# Altium footprint library Connector_Molex.PcbLib: 815 footprints (part 9 of 51)
Each footprint in its own frame and in the unit in brackets; x right, y up, seen from the top. Pads: shape width x height; smd on the part's side, far side on the other; paste and mask are expansions set on the pad; w line width, h text height; cw(c..) or ccw(c..) is an arc to the next point about the centre after c.
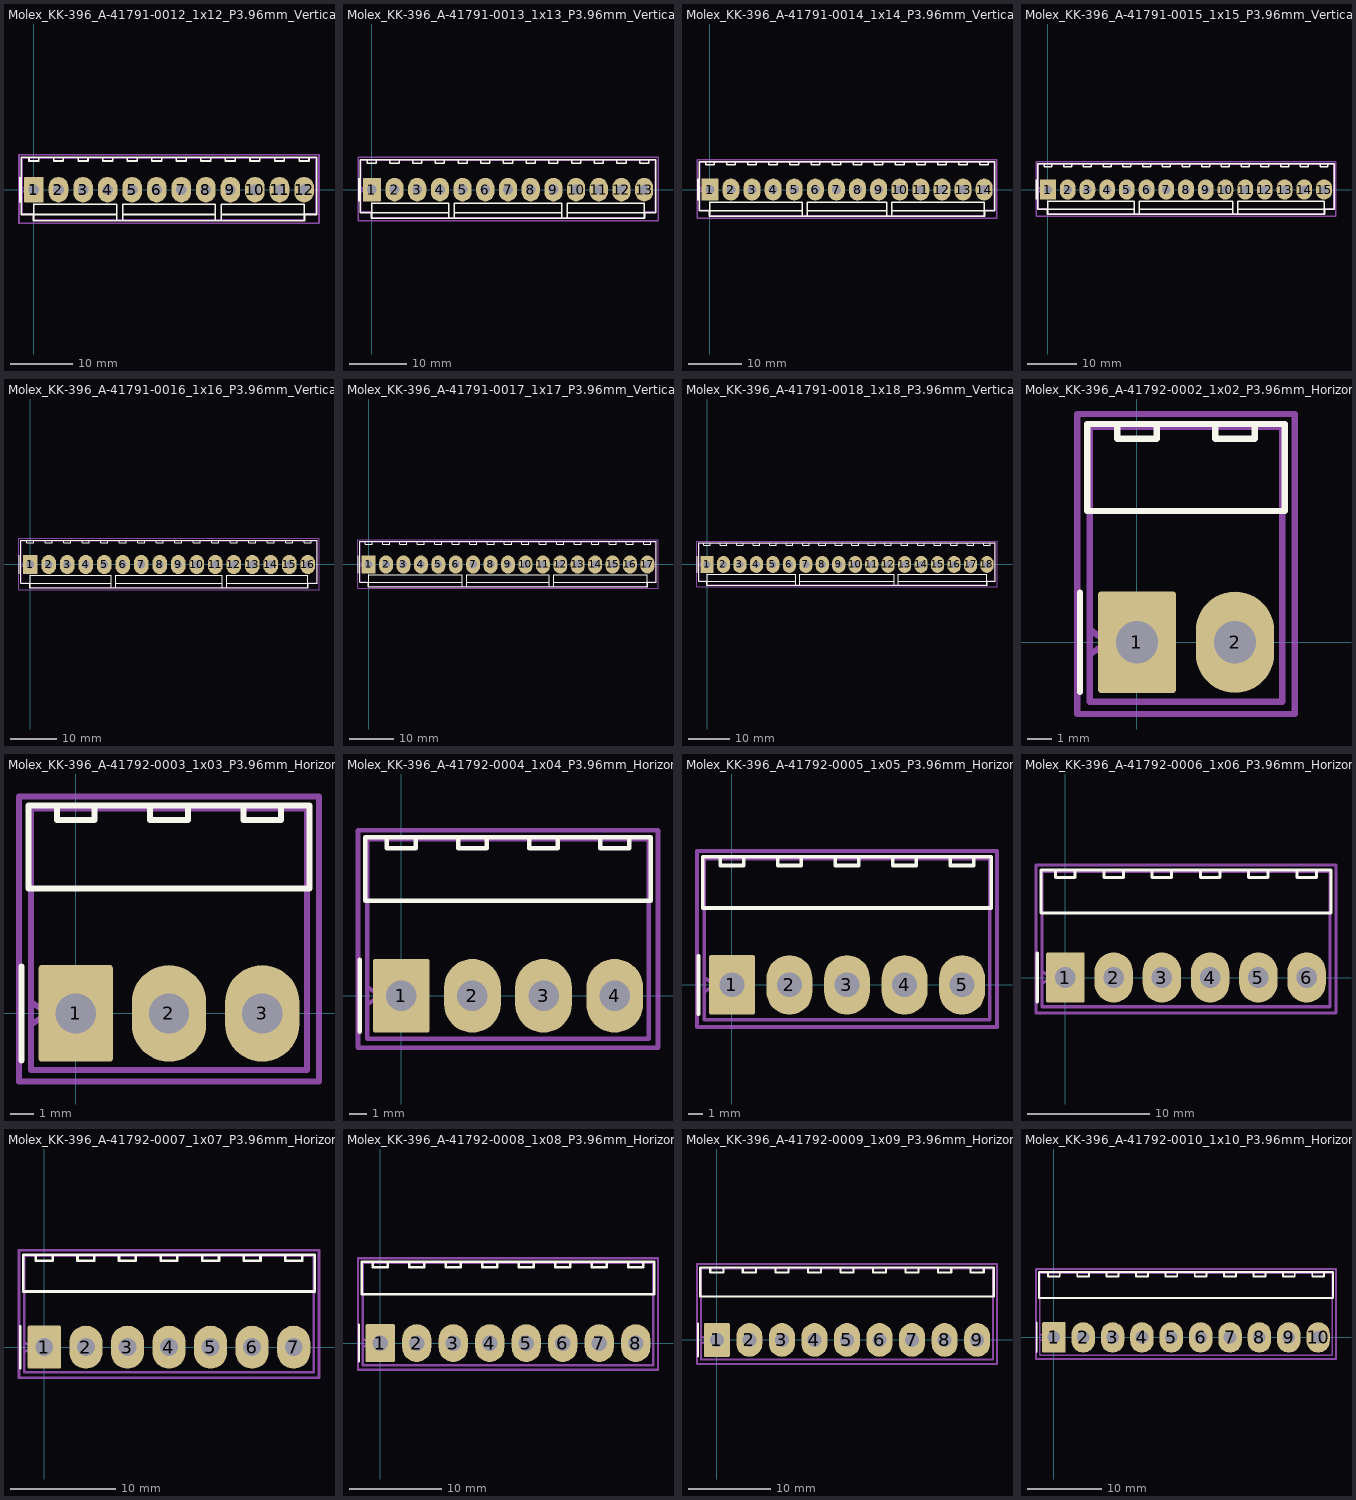
[diagram p8: the footprints below, top view; thin cyan lines are the x and y axes]

## Molex_KK-396_A-41791-0012_1x12_P3.96mm_Vertical [mm]
pads (12):
  rrect8% 3.16x4.1 hole 1.7: 1(0,0)
  rrect100% 3.16x4.1 hole 1.7: 2(3.96,0) 3(7.92,0) 4(11.88,0) 5(15.84,0) 6(19.8,0) 7(23.76,0) 8(27.72,0) 9(31.68,0) 10(35.64,0) 11(39.6,0) 12(43.56,0)
F.SilkS:
  lines w0.254: -2.31,-2 -2.31,2 ; -0.8,5.22 -0.8,4.62 0.8,4.62 0.8,5.22 ; 0,-5.01 0,-4.01 ; 3.16,5.22 3.16,4.62 4.76,4.62 4.76,5.22 ; 7.12,5.22 7.12,4.62 8.72,4.62 8.72,5.22 ; 11.08,5.22 11.08,4.62 12.68,4.62 12.68,5.22 ; 13.38,-5.01 13.38,-4.01 ; 14.34,-5.01 14.34,-4.01 ; 15.04,5.22 15.04,4.62 16.64,4.62 16.64,5.22 ; 19,5.22 19,4.62 20.6,4.62 20.6,5.22 ; 22.96,5.22 22.96,4.62 24.56,4.62 24.56,5.22 ; 26.92,5.22 26.92,4.62 28.52,4.62 28.52,5.22 ; 29.22,-5.01 29.22,-4.01 ; 30.18,-5.01 30.18,-4.01 ; 30.88,5.22 30.88,4.62 32.48,4.62 32.48,5.22 ; 34.84,5.22 34.84,4.62 36.44,4.62 36.44,5.22 ; 38.8,5.22 38.8,4.62 40.4,4.62 40.4,5.22 ; 42.76,5.22 42.76,4.62 44.36,4.62 44.36,5.22 ; 43.56,-5.01 43.56,-4.01 ; 0,-4.01 13.38,-4.01 ; 0,-4.01 0,-2.34 13.38,-2.34 13.38,-4.01 ; 14.34,-4.01 29.22,-4.01 ; 14.34,-4.01 14.34,-2.34 29.22,-2.34 29.22,-4.01 ; 30.18,-4.01 43.56,-4.01 ; 30.18,-4.01 30.18,-2.34 43.56,-2.34 43.56,-4.01 ; -2.02,-4.005 -0.115,-4.005 -0.115,-5.01 43.675,-5.01 43.675,-4.005 45.58,-4.005 45.58,5.22 -2.02,5.22 -2.02,-4.005
Top Assembly:
  lines w0.254: -1.91,-0.5 -1.203,0 -1.91,0.5 ; -1.91,-3.895 -0.005,-3.895 -0.005,-4.9 43.565,-4.9 43.565,-3.895 45.47,-3.895 45.47,5.11 -1.91,5.11 -1.91,-3.895
  text "'.Designator'" at 17.733,3.57 h1
Top Courtyard:
  lines w0.254: -2.41,-5.4 45.97,-5.4 45.97,5.61 -2.41,5.61 -2.41,-5.4
Top Designator:
  text ".Designator" at 14.162,-0.403 h1.52

## Molex_KK-396_A-41791-0013_1x13_P3.96mm_Vertical [mm]
pads (13):
  rrect8% 3.16x4.1 hole 1.7: 1(0,0)
  rrect100% 3.16x4.1 hole 1.7: 2(3.96,0) 3(7.92,0) 4(11.88,0) 5(15.84,0) 6(19.8,0) 7(23.76,0) 8(27.72,0) 9(31.68,0) 10(35.64,0) 11(39.6,0) 12(43.56,0) 13(47.52,0)
F.SilkS:
  lines w0.254: -2.31,-2 -2.31,2 ; -0.8,5.22 -0.8,4.62 0.8,4.62 0.8,5.22 ; 0,-5.01 0,-4.01 ; 3.16,5.22 3.16,4.62 4.76,4.62 4.76,5.22 ; 7.12,5.22 7.12,4.62 8.72,4.62 8.72,5.22 ; 11.08,5.22 11.08,4.62 12.68,4.62 12.68,5.22 ; 13.38,-5.01 13.38,-4.01 ; 14.34,-5.01 14.34,-4.01 ; 15.04,5.22 15.04,4.62 16.64,4.62 16.64,5.22 ; 19,5.22 19,4.62 20.6,4.62 20.6,5.22 ; 22.96,5.22 22.96,4.62 24.56,4.62 24.56,5.22 ; 26.92,5.22 26.92,4.62 28.52,4.62 28.52,5.22 ; 30.88,5.22 30.88,4.62 32.48,4.62 32.48,5.22 ; 33.18,-5.01 33.18,-4.01 ; 34.14,-5.01 34.14,-4.01 ; 34.84,5.22 34.84,4.62 36.44,4.62 36.44,5.22 ; 38.8,5.22 38.8,4.62 40.4,4.62 40.4,5.22 ; 42.76,5.22 42.76,4.62 44.36,4.62 44.36,5.22 ; 46.72,5.22 46.72,4.62 48.32,4.62 48.32,5.22 ; 47.52,-5.01 47.52,-4.01 ; 0,-4.01 13.38,-4.01 ; 0,-4.01 0,-2.34 13.38,-2.34 13.38,-4.01 ; 14.34,-4.01 33.18,-4.01 ; 14.34,-4.01 14.34,-2.34 33.18,-2.34 33.18,-4.01 ; 34.14,-4.01 47.52,-4.01 ; 34.14,-4.01 34.14,-2.34 47.52,-2.34 47.52,-4.01 ; -2.02,-4.005 -0.115,-4.005 -0.115,-5.01 47.635,-5.01 47.635,-4.005 49.54,-4.005 49.54,5.22 -2.02,5.22 -2.02,-4.005
Top Assembly:
  lines w0.254: -1.91,-0.5 -1.203,0 -1.91,0.5 ; -1.91,-3.895 -0.005,-3.895 -0.005,-4.9 47.525,-4.9 47.525,-3.895 49.43,-3.895 49.43,5.11 -1.91,5.11 -1.91,-3.895
  text "'.Designator'" at 19.713,3.57 h1
Top Courtyard:
  lines w0.254: -2.41,-5.4 49.93,-5.4 49.93,5.61 -2.41,5.61 -2.41,-5.4
Top Designator:
  text ".Designator" at 16.142,-0.403 h1.52

## Molex_KK-396_A-41791-0014_1x14_P3.96mm_Vertical [mm]
pads (14):
  rrect8% 3.16x4.1 hole 1.7: 1(0,0)
  rrect100% 3.16x4.1 hole 1.7: 2(3.96,0) 3(7.92,0) 4(11.88,0) 5(15.84,0) 6(19.8,0) 7(23.76,0) 8(27.72,0) 9(31.68,0) 10(35.64,0) 11(39.6,0) 12(43.56,0) 13(47.52,0) 14(51.48,0)
F.SilkS:
  lines w0.254: -2.31,-2 -2.31,2 ; -0.8,5.22 -0.8,4.62 0.8,4.62 0.8,5.22 ; 0,-5.01 0,-4.01 ; 3.16,5.22 3.16,4.62 4.76,4.62 4.76,5.22 ; 7.12,5.22 7.12,4.62 8.72,4.62 8.72,5.22 ; 11.08,5.22 11.08,4.62 12.68,4.62 12.68,5.22 ; 15.04,5.22 15.04,4.62 16.64,4.62 16.64,5.22 ; 17.34,-5.01 17.34,-4.01 ; 18.3,-5.01 18.3,-4.01 ; 19,5.22 19,4.62 20.6,4.62 20.6,5.22 ; 22.96,5.22 22.96,4.62 24.56,4.62 24.56,5.22 ; 26.92,5.22 26.92,4.62 28.52,4.62 28.52,5.22 ; 30.88,5.22 30.88,4.62 32.48,4.62 32.48,5.22 ; 33.18,-5.01 33.18,-4.01 ; 34.14,-5.01 34.14,-4.01 ; 34.84,5.22 34.84,4.62 36.44,4.62 36.44,5.22 ; 38.8,5.22 38.8,4.62 40.4,4.62 40.4,5.22 ; 42.76,5.22 42.76,4.62 44.36,4.62 44.36,5.22 ; 46.72,5.22 46.72,4.62 48.32,4.62 48.32,5.22 ; 50.68,5.22 50.68,4.62 52.28,4.62 52.28,5.22 ; 51.48,-5.01 51.48,-4.01 ; 0,-4.01 0,-2.34 17.34,-2.34 17.34,-4.01 ; 0,-4.01 17.34,-4.01 ; 18.3,-4.01 18.3,-2.34 33.18,-2.34 33.18,-4.01 ; 18.3,-4.01 33.18,-4.01 ; 34.14,-4.01 34.14,-2.34 51.48,-2.34 51.48,-4.01 ; 34.14,-4.01 51.48,-4.01 ; -2.02,-4.005 -2.02,5.22 53.5,5.22 53.5,-4.005 51.595,-4.005 51.595,-5.01 -0.115,-5.01 -0.115,-4.005 -2.02,-4.005
Top Assembly:
  lines w0.254: -1.91,-0.5 -1.203,0 -1.91,0.5 ; -1.91,-3.895 -1.91,5.11 53.39,5.11 53.39,-3.895 51.485,-3.895 51.485,-4.9 -0.005,-4.9 -0.005,-3.895 -1.91,-3.895
  text "'.Designator'" at 21.693,3.57 h1
Top Courtyard:
  lines w0.254: -2.41,-5.4 -2.41,5.61 53.89,5.61 53.89,-5.4 -2.41,-5.4
Top Designator:
  text ".Designator" at 18.122,-0.403 h1.52

## Molex_KK-396_A-41791-0015_1x15_P3.96mm_Vertical [mm]
pads (15):
  rrect8% 3.16x4.1 hole 1.7: 1(0,0)
  rrect100% 3.16x4.1 hole 1.7: 2(3.96,0) 3(7.92,0) 4(11.88,0) 5(15.84,0) 6(19.8,0) 7(23.76,0) 8(27.72,0) 9(31.68,0) 10(35.64,0) 11(39.6,0) 12(43.56,0) 13(47.52,0) 14(51.48,0) 15(55.44,0)
F.SilkS:
  lines w0.254: -2.31,-2 -2.31,2 ; -0.8,5.22 -0.8,4.62 0.8,4.62 0.8,5.22 ; 0,-5.01 0,-4.01 ; 3.16,5.22 3.16,4.62 4.76,4.62 4.76,5.22 ; 7.12,5.22 7.12,4.62 8.72,4.62 8.72,5.22 ; 11.08,5.22 11.08,4.62 12.68,4.62 12.68,5.22 ; 15.04,5.22 15.04,4.62 16.64,4.62 16.64,5.22 ; 17.34,-5.01 17.34,-4.01 ; 18.3,-5.01 18.3,-4.01 ; 19,5.22 19,4.62 20.6,4.62 20.6,5.22 ; 22.96,5.22 22.96,4.62 24.56,4.62 24.56,5.22 ; 26.92,5.22 26.92,4.62 28.52,4.62 28.52,5.22 ; 30.88,5.22 30.88,4.62 32.48,4.62 32.48,5.22 ; 34.84,5.22 34.84,4.62 36.44,4.62 36.44,5.22 ; 37.14,-5.01 37.14,-4.01 ; 38.1,-5.01 38.1,-4.01 ; 38.8,5.22 38.8,4.62 40.4,4.62 40.4,5.22 ; 42.76,5.22 42.76,4.62 44.36,4.62 44.36,5.22 ; 46.72,5.22 46.72,4.62 48.32,4.62 48.32,5.22 ; 50.68,5.22 50.68,4.62 52.28,4.62 52.28,5.22 ; 54.64,5.22 54.64,4.62 56.24,4.62 56.24,5.22 ; 55.44,-5.01 55.44,-4.01 ; 0,-4.01 17.34,-4.01 ; 0,-4.01 0,-2.34 17.34,-2.34 17.34,-4.01 ; 18.3,-4.01 37.14,-4.01 ; 18.3,-4.01 18.3,-2.34 37.14,-2.34 37.14,-4.01 ; 38.1,-4.01 55.44,-4.01 ; 38.1,-4.01 38.1,-2.34 55.44,-2.34 55.44,-4.01 ; -2.02,-4.005 -0.115,-4.005 -0.115,-5.01 55.555,-5.01 55.555,-4.005 57.46,-4.005 57.46,5.22 -2.02,5.22 -2.02,-4.005
Top Assembly:
  lines w0.254: -1.91,-0.5 -1.203,0 -1.91,0.5 ; -1.91,-3.895 -0.005,-3.895 -0.005,-4.9 55.445,-4.9 55.445,-3.895 57.35,-3.895 57.35,5.11 -1.91,5.11 -1.91,-3.895
  text "'.Designator'" at 23.673,3.57 h1
Top Courtyard:
  lines w0.254: -2.41,-5.4 57.85,-5.4 57.85,5.61 -2.41,5.61 -2.41,-5.4
Top Designator:
  text ".Designator" at 20.102,-0.403 h1.52

## Molex_KK-396_A-41791-0016_1x16_P3.96mm_Vertical [mm]
pads (16):
  rrect8% 3.16x4.1 hole 1.7: 1(0,0)
  rrect100% 3.16x4.1 hole 1.7: 2(3.96,0) 3(7.92,0) 4(11.88,0) 5(15.84,0) 6(19.8,0) 7(23.76,0) 8(27.72,0) 9(31.68,0) 10(35.64,0) 11(39.6,0) 12(43.56,0) 13(47.52,0) 14(51.48,0) 15(55.44,0) 16(59.4,0)
F.SilkS:
  lines w0.254: -2.31,-2 -2.31,2 ; -0.8,5.22 -0.8,4.62 0.8,4.62 0.8,5.22 ; 0,-5.01 0,-4.01 ; 3.16,5.22 3.16,4.62 4.76,4.62 4.76,5.22 ; 7.12,5.22 7.12,4.62 8.72,4.62 8.72,5.22 ; 11.08,5.22 11.08,4.62 12.68,4.62 12.68,5.22 ; 15.04,5.22 15.04,4.62 16.64,4.62 16.64,5.22 ; 17.34,-5.01 17.34,-4.01 ; 18.3,-5.01 18.3,-4.01 ; 19,5.22 19,4.62 20.6,4.62 20.6,5.22 ; 22.96,5.22 22.96,4.62 24.56,4.62 24.56,5.22 ; 26.92,5.22 26.92,4.62 28.52,4.62 28.52,5.22 ; 30.88,5.22 30.88,4.62 32.48,4.62 32.48,5.22 ; 34.84,5.22 34.84,4.62 36.44,4.62 36.44,5.22 ; 38.8,5.22 38.8,4.62 40.4,4.62 40.4,5.22 ; 41.1,-5.01 41.1,-4.01 ; 42.06,-5.01 42.06,-4.01 ; 42.76,5.22 42.76,4.62 44.36,4.62 44.36,5.22 ; 46.72,5.22 46.72,4.62 48.32,4.62 48.32,5.22 ; 50.68,5.22 50.68,4.62 52.28,4.62 52.28,5.22 ; 54.64,5.22 54.64,4.62 56.24,4.62 56.24,5.22 ; 58.6,5.22 58.6,4.62 60.2,4.62 60.2,5.22 ; 59.4,-5.01 59.4,-4.01 ; 0,-4.01 17.34,-4.01 ; 0,-4.01 0,-2.34 17.34,-2.34 17.34,-4.01 ; 18.3,-4.01 41.1,-4.01 ; 18.3,-4.01 18.3,-2.34 41.1,-2.34 41.1,-4.01 ; 42.06,-4.01 59.4,-4.01 ; 42.06,-4.01 42.06,-2.34 59.4,-2.34 59.4,-4.01 ; -2.02,-4.005 -0.115,-4.005 -0.115,-5.01 59.515,-5.01 59.515,-4.005 61.42,-4.005 61.42,5.22 -2.02,5.22 -2.02,-4.005
Top Assembly:
  lines w0.254: -1.91,-0.5 -1.203,0 -1.91,0.5 ; -1.91,-3.895 -0.005,-3.895 -0.005,-4.9 59.405,-4.9 59.405,-3.895 61.31,-3.895 61.31,5.11 -1.91,5.11 -1.91,-3.895
  text "'.Designator'" at 25.653,3.57 h1
Top Courtyard:
  lines w0.254: -2.41,-5.4 61.81,-5.4 61.81,5.61 -2.41,5.61 -2.41,-5.4
Top Designator:
  text ".Designator" at 22.082,-0.403 h1.52

## Molex_KK-396_A-41791-0017_1x17_P3.96mm_Vertical [mm]
pads (17):
  rrect8% 3.16x4.1 hole 1.7: 1(0,0)
  rrect100% 3.16x4.1 hole 1.7: 2(3.96,0) 3(7.92,0) 4(11.88,0) 5(15.84,0) 6(19.8,0) 7(23.76,0) 8(27.72,0) 9(31.68,0) 10(35.64,0) 11(39.6,0) 12(43.56,0) 13(47.52,0) 14(51.48,0) 15(55.44,0) 16(59.4,0) 17(63.36,0)
F.SilkS:
  lines w0.254: -2.31,-2 -2.31,2 ; -0.8,5.22 -0.8,4.62 0.8,4.62 0.8,5.22 ; 0,-5.01 0,-4.01 ; 3.16,5.22 3.16,4.62 4.76,4.62 4.76,5.22 ; 7.12,5.22 7.12,4.62 8.72,4.62 8.72,5.22 ; 11.08,5.22 11.08,4.62 12.68,4.62 12.68,5.22 ; 15.04,5.22 15.04,4.62 16.64,4.62 16.64,5.22 ; 19,5.22 19,4.62 20.6,4.62 20.6,5.22 ; 21.3,-5.01 21.3,-4.01 ; 22.26,-5.01 22.26,-4.01 ; 22.96,5.22 22.96,4.62 24.56,4.62 24.56,5.22 ; 26.92,5.22 26.92,4.62 28.52,4.62 28.52,5.22 ; 30.88,5.22 30.88,4.62 32.48,4.62 32.48,5.22 ; 34.84,5.22 34.84,4.62 36.44,4.62 36.44,5.22 ; 38.8,5.22 38.8,4.62 40.4,4.62 40.4,5.22 ; 41.1,-5.01 41.1,-4.01 ; 42.06,-5.01 42.06,-4.01 ; 42.76,5.22 42.76,4.62 44.36,4.62 44.36,5.22 ; 46.72,5.22 46.72,4.62 48.32,4.62 48.32,5.22 ; 50.68,5.22 50.68,4.62 52.28,4.62 52.28,5.22 ; 54.64,5.22 54.64,4.62 56.24,4.62 56.24,5.22 ; 58.6,5.22 58.6,4.62 60.2,4.62 60.2,5.22 ; 62.56,5.22 62.56,4.62 64.16,4.62 64.16,5.22 ; 63.36,-5.01 63.36,-4.01 ; 0,-4.01 21.3,-4.01 ; 0,-4.01 0,-2.34 21.3,-2.34 21.3,-4.01 ; 22.26,-4.01 41.1,-4.01 ; 22.26,-4.01 22.26,-2.34 41.1,-2.34 41.1,-4.01 ; 42.06,-4.01 63.36,-4.01 ; 42.06,-4.01 42.06,-2.34 63.36,-2.34 63.36,-4.01 ; -2.02,-4.005 -0.115,-4.005 -0.115,-5.01 63.475,-5.01 63.475,-4.005 65.38,-4.005 65.38,5.22 -2.02,5.22 -2.02,-4.005
Top Assembly:
  lines w0.254: -1.91,-0.5 -1.203,0 -1.91,0.5 ; -1.91,-3.895 -0.005,-3.895 -0.005,-4.9 63.365,-4.9 63.365,-3.895 65.27,-3.895 65.27,5.11 -1.91,5.11 -1.91,-3.895
  text "'.Designator'" at 27.633,3.57 h1
Top Courtyard:
  lines w0.254: -2.41,-5.4 65.77,-5.4 65.77,5.61 -2.41,5.61 -2.41,-5.4
Top Designator:
  text ".Designator" at 24.062,-0.403 h1.52

## Molex_KK-396_A-41791-0018_1x18_P3.96mm_Vertical [mm]
pads (18):
  rrect8% 3.16x4.1 hole 1.7: 1(0,0)
  rrect100% 3.16x4.1 hole 1.7: 2(3.96,0) 3(7.92,0) 4(11.88,0) 5(15.84,0) 6(19.8,0) 7(23.76,0) 8(27.72,0) 9(31.68,0) 10(35.64,0) 11(39.6,0) 12(43.56,0) 13(47.52,0) 14(51.48,0) 15(55.44,0) 16(59.4,0) 17(63.36,0) 18(67.32,0)
F.SilkS:
  lines w0.254: -2.31,-2 -2.31,2 ; -0.8,5.22 -0.8,4.62 0.8,4.62 0.8,5.22 ; 0,-5.01 0,-4.01 ; 3.16,5.22 3.16,4.62 4.76,4.62 4.76,5.22 ; 7.12,5.22 7.12,4.62 8.72,4.62 8.72,5.22 ; 11.08,5.22 11.08,4.62 12.68,4.62 12.68,5.22 ; 15.04,5.22 15.04,4.62 16.64,4.62 16.64,5.22 ; 19,5.22 19,4.62 20.6,4.62 20.6,5.22 ; 21.3,-5.01 21.3,-4.01 ; 22.26,-5.01 22.26,-4.01 ; 22.96,5.22 22.96,4.62 24.56,4.62 24.56,5.22 ; 26.92,5.22 26.92,4.62 28.52,4.62 28.52,5.22 ; 30.88,5.22 30.88,4.62 32.48,4.62 32.48,5.22 ; 34.84,5.22 34.84,4.62 36.44,4.62 36.44,5.22 ; 38.8,5.22 38.8,4.62 40.4,4.62 40.4,5.22 ; 42.76,5.22 42.76,4.62 44.36,4.62 44.36,5.22 ; 45.06,-5.01 45.06,-4.01 ; 46.02,-5.01 46.02,-4.01 ; 46.72,5.22 46.72,4.62 48.32,4.62 48.32,5.22 ; 50.68,5.22 50.68,4.62 52.28,4.62 52.28,5.22 ; 54.64,5.22 54.64,4.62 56.24,4.62 56.24,5.22 ; 58.6,5.22 58.6,4.62 60.2,4.62 60.2,5.22 ; 62.56,5.22 62.56,4.62 64.16,4.62 64.16,5.22 ; 66.52,5.22 66.52,4.62 68.12,4.62 68.12,5.22 ; 67.32,-5.01 67.32,-4.01 ; 0,-4.01 21.3,-4.01 ; 0,-4.01 0,-2.34 21.3,-2.34 21.3,-4.01 ; 22.26,-4.01 45.06,-4.01 ; 22.26,-4.01 22.26,-2.34 45.06,-2.34 45.06,-4.01 ; 46.02,-4.01 67.32,-4.01 ; 46.02,-4.01 46.02,-2.34 67.32,-2.34 67.32,-4.01 ; -2.02,-4.005 -0.115,-4.005 -0.115,-5.01 67.435,-5.01 67.435,-4.005 69.34,-4.005 69.34,5.22 -2.02,5.22 -2.02,-4.005
Top Assembly:
  lines w0.254: -1.91,-0.5 -1.203,0 -1.91,0.5 ; -1.91,-3.895 -0.005,-3.895 -0.005,-4.9 67.325,-4.9 67.325,-3.895 69.23,-3.895 69.23,5.11 -1.91,5.11 -1.91,-3.895
  text "'.Designator'" at 29.613,3.57 h1
Top Courtyard:
  lines w0.254: -2.41,-5.4 69.73,-5.4 69.73,5.61 -2.41,5.61 -2.41,-5.4
Top Designator:
  text ".Designator" at 26.042,-0.403 h1.52

## Molex_KK-396_A-41792-0002_1x02_P3.96mm_Horizontal [mm]
pads (2):
  rrect8% 3.16x4.1 hole 1.7: 1(0,0)
  rrect100% 3.16x4.1 hole 1.7: 2(3.96,0)
F.SilkS:
  lines w0.254: -2.305,-2 -2.305,2 ; -0.8,8.82 -0.8,8.22 0.8,8.22 0.8,8.82 ; 3.16,8.82 3.16,8.22 4.76,8.22 4.76,8.82 ; -2.015,5.3 5.975,5.3 5.975,8.82 -2.015,8.82 -2.015,5.3
Top Assembly:
  lines w0.254: -1.905,-0.5 -1.198,0 -1.905,0.5 ; -1.905,-2.4 5.865,-2.4 5.865,8.71 -1.905,8.71 -1.905,-2.4
  text "'.Designator'" at -2.067,7.17 h1
Top Courtyard:
  lines w0.254: -2.41,-2.9 6.37,-2.9 6.37,9.22 -2.41,9.22 -2.41,-2.9
Top Designator:
  text ".Designator" at -5.638,2.652 h1.52

## Molex_KK-396_A-41792-0003_1x03_P3.96mm_Horizontal [mm]
pads (3):
  rrect8% 3.16x4.1 hole 1.7: 1(0,0)
  rrect100% 3.16x4.1 hole 1.7: 2(3.96,0) 3(7.92,0)
F.SilkS:
  lines w0.254: -2.305,-2 -2.305,2 ; -0.8,8.82 -0.8,8.22 0.8,8.22 0.8,8.82 ; 3.16,8.82 3.16,8.22 4.76,8.22 4.76,8.82 ; 7.12,8.82 7.12,8.22 8.72,8.22 8.72,8.82 ; -2.015,5.3 9.935,5.3 9.935,8.82 -2.015,8.82 -2.015,5.3
Top Assembly:
  lines w0.254: -1.905,-0.5 -1.198,0 -1.905,0.5 ; -1.905,-2.4 9.825,-2.4 9.825,8.71 -1.905,8.71 -1.905,-2.4
  text "'.Designator'" at -0.087,7.17 h1
Top Courtyard:
  lines w0.254: -2.41,-2.9 10.33,-2.9 10.33,9.22 -2.41,9.22 -2.41,-2.9
Top Designator:
  text ".Designator" at -3.658,2.652 h1.52

## Molex_KK-396_A-41792-0004_1x04_P3.96mm_Horizontal [mm]
pads (4):
  rrect8% 3.16x4.1 hole 1.7: 1(0,0)
  rrect100% 3.16x4.1 hole 1.7: 2(3.96,0) 3(7.92,0) 4(11.88,0)
F.SilkS:
  lines w0.254: -2.305,-2 -2.305,2 ; -0.8,8.82 -0.8,8.22 0.8,8.22 0.8,8.82 ; 3.16,8.82 3.16,8.22 4.76,8.22 4.76,8.82 ; 7.12,8.82 7.12,8.22 8.72,8.22 8.72,8.82 ; 11.08,8.82 11.08,8.22 12.68,8.22 12.68,8.82 ; -2.015,5.3 13.895,5.3 13.895,8.82 -2.015,8.82 -2.015,5.3
Top Assembly:
  lines w0.254: -1.905,-0.5 -1.198,0 -1.905,0.5 ; -1.905,-2.4 13.785,-2.4 13.785,8.71 -1.905,8.71 -1.905,-2.4
  text "'.Designator'" at 1.893,7.17 h1
Top Courtyard:
  lines w0.254: -2.41,-2.9 14.29,-2.9 14.29,9.22 -2.41,9.22 -2.41,-2.9
Top Designator:
  text ".Designator" at -1.678,2.652 h1.52

## Molex_KK-396_A-41792-0005_1x05_P3.96mm_Horizontal [mm]
pads (5):
  rrect8% 3.16x4.1 hole 1.7: 1(0,0)
  rrect100% 3.16x4.1 hole 1.7: 2(3.96,0) 3(7.92,0) 4(11.88,0) 5(15.84,0)
F.SilkS:
  lines w0.254: -2.305,-2 -2.305,2 ; -0.8,8.82 -0.8,8.22 0.8,8.22 0.8,8.82 ; 3.16,8.82 3.16,8.22 4.76,8.22 4.76,8.82 ; 7.12,8.82 7.12,8.22 8.72,8.22 8.72,8.82 ; 11.08,8.82 11.08,8.22 12.68,8.22 12.68,8.82 ; 15.04,8.82 15.04,8.22 16.64,8.22 16.64,8.82 ; -2.015,5.3 17.855,5.3 17.855,8.82 -2.015,8.82 -2.015,5.3
Top Assembly:
  lines w0.254: -1.905,-0.5 -1.198,0 -1.905,0.5 ; -1.905,-2.4 17.745,-2.4 17.745,8.71 -1.905,8.71 -1.905,-2.4
  text "'.Designator'" at 3.873,7.17 h1
Top Courtyard:
  lines w0.254: -2.41,-2.9 18.25,-2.9 18.25,9.22 -2.41,9.22 -2.41,-2.9
Top Designator:
  text ".Designator" at 0.302,2.652 h1.52

## Molex_KK-396_A-41792-0006_1x06_P3.96mm_Horizontal [mm]
pads (6):
  rrect8% 3.16x4.1 hole 1.7: 1(0,0)
  rrect100% 3.16x4.1 hole 1.7: 2(3.96,0) 3(7.92,0) 4(11.88,0) 5(15.84,0) 6(19.8,0)
F.SilkS:
  lines w0.254: -2.305,-2 -2.305,2 ; -0.8,8.82 -0.8,8.22 0.8,8.22 0.8,8.82 ; 3.16,8.82 3.16,8.22 4.76,8.22 4.76,8.82 ; 7.12,8.82 7.12,8.22 8.72,8.22 8.72,8.82 ; 11.08,8.82 11.08,8.22 12.68,8.22 12.68,8.82 ; 15.04,8.82 15.04,8.22 16.64,8.22 16.64,8.82 ; 19,8.82 19,8.22 20.6,8.22 20.6,8.82 ; -2.015,5.3 21.815,5.3 21.815,8.82 -2.015,8.82 -2.015,5.3
Top Assembly:
  lines w0.254: -1.905,-0.5 -1.198,0 -1.905,0.5 ; -1.905,-2.4 21.705,-2.4 21.705,8.71 -1.905,8.71 -1.905,-2.4
  text "'.Designator'" at 5.853,7.17 h1
Top Courtyard:
  lines w0.254: -2.41,-2.9 22.21,-2.9 22.21,9.22 -2.41,9.22 -2.41,-2.9
Top Designator:
  text ".Designator" at 2.282,2.652 h1.52

## Molex_KK-396_A-41792-0007_1x07_P3.96mm_Horizontal [mm]
pads (7):
  rrect8% 3.16x4.1 hole 1.7: 1(0,0)
  rrect100% 3.16x4.1 hole 1.7: 2(3.96,0) 3(7.92,0) 4(11.88,0) 5(15.84,0) 6(19.8,0) 7(23.76,0)
F.SilkS:
  lines w0.254: -2.305,-2 -2.305,2 ; -0.8,8.82 -0.8,8.22 0.8,8.22 0.8,8.82 ; 3.16,8.82 3.16,8.22 4.76,8.22 4.76,8.82 ; 7.12,8.82 7.12,8.22 8.72,8.22 8.72,8.82 ; 11.08,8.82 11.08,8.22 12.68,8.22 12.68,8.82 ; 15.04,8.82 15.04,8.22 16.64,8.22 16.64,8.82 ; 19,8.82 19,8.22 20.6,8.22 20.6,8.82 ; 22.96,8.82 22.96,8.22 24.56,8.22 24.56,8.82 ; -2.015,5.3 25.775,5.3 25.775,8.82 -2.015,8.82 -2.015,5.3
Top Assembly:
  lines w0.254: -1.905,-0.5 -1.198,0 -1.905,0.5 ; -1.905,-2.4 25.665,-2.4 25.665,8.71 -1.905,8.71 -1.905,-2.4
  text "'.Designator'" at 7.833,7.17 h1
Top Courtyard:
  lines w0.254: -2.41,-2.9 26.17,-2.9 26.17,9.22 -2.41,9.22 -2.41,-2.9
Top Designator:
  text ".Designator" at 4.262,2.652 h1.52

## Molex_KK-396_A-41792-0008_1x08_P3.96mm_Horizontal [mm]
pads (8):
  rrect8% 3.16x4.1 hole 1.7: 1(0,0)
  rrect100% 3.16x4.1 hole 1.7: 2(3.96,0) 3(7.92,0) 4(11.88,0) 5(15.84,0) 6(19.8,0) 7(23.76,0) 8(27.72,0)
F.SilkS:
  lines w0.254: -2.305,-2 -2.305,2 ; -0.8,8.82 -0.8,8.22 0.8,8.22 0.8,8.82 ; 3.16,8.82 3.16,8.22 4.76,8.22 4.76,8.82 ; 7.12,8.82 7.12,8.22 8.72,8.22 8.72,8.82 ; 11.08,8.82 11.08,8.22 12.68,8.22 12.68,8.82 ; 15.04,8.82 15.04,8.22 16.64,8.22 16.64,8.82 ; 19,8.82 19,8.22 20.6,8.22 20.6,8.82 ; 22.96,8.82 22.96,8.22 24.56,8.22 24.56,8.82 ; 26.92,8.82 26.92,8.22 28.52,8.22 28.52,8.82 ; -2.015,5.3 29.735,5.3 29.735,8.82 -2.015,8.82 -2.015,5.3
Top Assembly:
  lines w0.254: -1.905,-0.5 -1.198,0 -1.905,0.5 ; -1.905,-2.4 29.625,-2.4 29.625,8.71 -1.905,8.71 -1.905,-2.4
  text "'.Designator'" at 9.813,7.17 h1
Top Courtyard:
  lines w0.254: -2.41,-2.9 30.13,-2.9 30.13,9.22 -2.41,9.22 -2.41,-2.9
Top Designator:
  text ".Designator" at 6.242,2.652 h1.52

## Molex_KK-396_A-41792-0009_1x09_P3.96mm_Horizontal [mm]
pads (9):
  rrect8% 3.16x4.1 hole 1.7: 1(0,0)
  rrect100% 3.16x4.1 hole 1.7: 2(3.96,0) 3(7.92,0) 4(11.88,0) 5(15.84,0) 6(19.8,0) 7(23.76,0) 8(27.72,0) 9(31.68,0)
F.SilkS:
  lines w0.254: -2.305,-2 -2.305,2 ; -0.8,8.82 -0.8,8.22 0.8,8.22 0.8,8.82 ; 3.16,8.82 3.16,8.22 4.76,8.22 4.76,8.82 ; 7.12,8.82 7.12,8.22 8.72,8.22 8.72,8.82 ; 11.08,8.82 11.08,8.22 12.68,8.22 12.68,8.82 ; 15.04,8.82 15.04,8.22 16.64,8.22 16.64,8.82 ; 19,8.82 19,8.22 20.6,8.22 20.6,8.82 ; 22.96,8.82 22.96,8.22 24.56,8.22 24.56,8.82 ; 26.92,8.82 26.92,8.22 28.52,8.22 28.52,8.82 ; 30.88,8.82 30.88,8.22 32.48,8.22 32.48,8.82 ; -2.015,5.3 33.695,5.3 33.695,8.82 -2.015,8.82 -2.015,5.3
Top Assembly:
  lines w0.254: -1.905,-0.5 -1.198,0 -1.905,0.5 ; -1.905,-2.4 33.585,-2.4 33.585,8.71 -1.905,8.71 -1.905,-2.4
  text "'.Designator'" at 11.793,7.17 h1
Top Courtyard:
  lines w0.254: -2.41,-2.9 34.09,-2.9 34.09,9.22 -2.41,9.22 -2.41,-2.9
Top Designator:
  text ".Designator" at 8.222,2.652 h1.52

## Molex_KK-396_A-41792-0010_1x10_P3.96mm_Horizontal [mm]
pads (10):
  rrect8% 3.16x4.1 hole 1.7: 1(0,0)
  rrect100% 3.16x4.1 hole 1.7: 2(3.96,0) 3(7.92,0) 4(11.88,0) 5(15.84,0) 6(19.8,0) 7(23.76,0) 8(27.72,0) 9(31.68,0) 10(35.64,0)
F.SilkS:
  lines w0.254: -2.305,-2 -2.305,2 ; -0.8,8.82 -0.8,8.22 0.8,8.22 0.8,8.82 ; 3.16,8.82 3.16,8.22 4.76,8.22 4.76,8.82 ; 7.12,8.82 7.12,8.22 8.72,8.22 8.72,8.82 ; 11.08,8.82 11.08,8.22 12.68,8.22 12.68,8.82 ; 15.04,8.82 15.04,8.22 16.64,8.22 16.64,8.82 ; 19,8.82 19,8.22 20.6,8.22 20.6,8.82 ; 22.96,8.82 22.96,8.22 24.56,8.22 24.56,8.82 ; 26.92,8.82 26.92,8.22 28.52,8.22 28.52,8.82 ; 30.88,8.82 30.88,8.22 32.48,8.22 32.48,8.82 ; 34.84,8.82 34.84,8.22 36.44,8.22 36.44,8.82 ; -2.015,5.3 37.655,5.3 37.655,8.82 -2.015,8.82 -2.015,5.3
Top Assembly:
  lines w0.254: -1.905,-0.5 -1.198,0 -1.905,0.5 ; -1.905,-2.4 37.545,-2.4 37.545,8.71 -1.905,8.71 -1.905,-2.4
  text "'.Designator'" at 13.773,7.17 h1
Top Courtyard:
  lines w0.254: -2.41,-2.9 38.05,-2.9 38.05,9.22 -2.41,9.22 -2.41,-2.9
Top Designator:
  text ".Designator" at 10.202,2.652 h1.52